# EAGLE library part 74AVC16224DGG (library alvie)
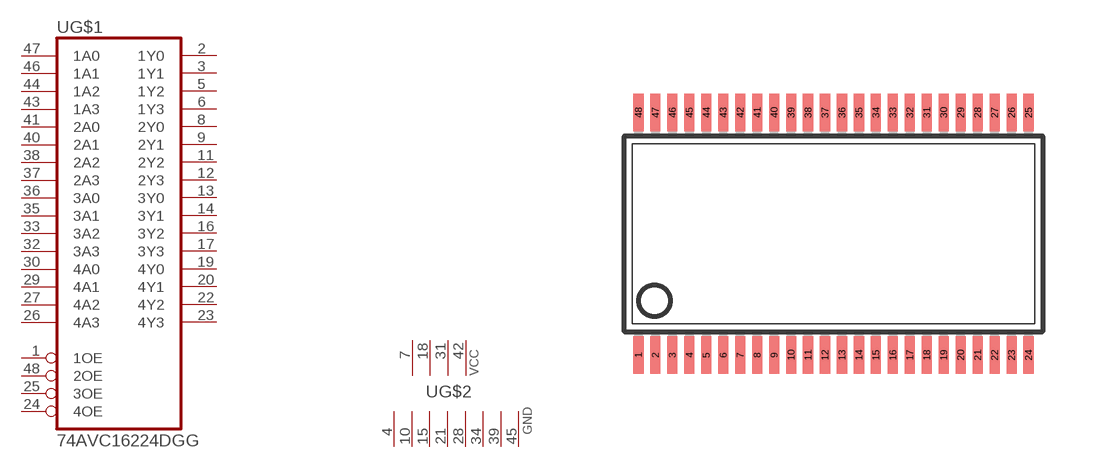
[diagram p24: symbol with the pads of TSSOP48; footprint TSSOP48]

Designator prefix -; gates G$1=7416244 G$2=4PWR8GND

## 74AVC16224DGG  [TSSOP48]
1  G$1:1OE  in
2  G$1:1Y0  hiz
3  G$1:1Y1  hiz
4  G$2:GND  pwr
5  G$1:1Y2  hiz
6  G$1:1Y3  hiz
7  G$2:VCC  pwr
8  G$1:2Y0  hiz
9  G$1:2Y1  hiz
10  G$2:GND  pwr
11  G$1:2Y2  hiz
12  G$1:2Y3  hiz
13  G$1:3Y0  hiz
14  G$1:3Y1  hiz
15  G$2:GND  pwr
16  G$1:3Y2  hiz
17  G$1:3Y3  hiz
18  G$2:VCC  pwr
19  G$1:4Y0  hiz
20  G$1:4Y1  hiz
21  G$2:GND  pwr
22  G$1:4Y2  hiz
23  G$1:4Y3  hiz
24  G$1:4OE  in
25  G$1:3OE  in
26  G$1:4A3  in
27  G$1:4A2  in
28  G$2:GND  pwr
29  G$1:4A1  in
30  G$1:4A0  in
31  G$2:VCC  pwr
32  G$1:3A3  in
33  G$1:3A2  in
34  G$2:GND  pwr
35  G$1:3A1  in
36  G$1:3A0  in
37  G$1:2A3  in
38  G$1:2A2  in
39  G$2:GND  pwr
40  G$1:2A1  in
41  G$1:2A0  in
42  G$2:VCC  pwr
43  G$1:1A3  in
44  G$1:1A2  in
45  G$2:GND  pwr
46  G$1:1A1  in
47  G$1:1A0  in
48  G$1:2OE  in

## Footprint TSSOP48 (pad centres in mm)
smd 0.3 x 1.1: 1 -5.75,-3.575; 2 -5.25,-3.575; 3 -4.75,-3.575; 4 -4.25,-3.575; 5 -3.75,-3.575; 6 -3.25,-3.575; 7 -2.75,-3.575; 8 -2.25,-3.575; 9 -1.75,-3.575; 10 -1.25,-3.575; 11 -0.75,-3.575; 12 -0.25,-3.575; 13 0.25,-3.575; 14 0.75,-3.575; 15 1.25,-3.575; 16 1.75,-3.575; 17 2.25,-3.575; 18 2.75,-3.575; 19 3.25,-3.575; 20 3.75,-3.575; 21 4.25,-3.575; 22 4.75,-3.575; 23 5.25,-3.575; 24 5.75,-3.575; 25 5.75,3.575; 26 5.25,3.575; 27 4.75,3.575; 28 4.25,3.575; 29 3.75,3.575; 30 3.25,3.575; 31 2.75,3.575; 32 2.25,3.575; 33 1.75,3.575; 34 1.25,3.575; 35 0.75,3.575; 36 0.25,3.575; 37 -0.25,3.575; 38 -0.75,3.575; 39 -1.25,3.575; 40 -1.75,3.575; 41 -2.25,3.575; 42 -2.75,3.575; 43 -3.25,3.575; 44 -3.75,3.575; 45 -4.25,3.575; 46 -4.75,3.575; 47 -5.25,3.575; 48 -5.75,3.575